# EAGLE library part DM3A (library Lysenko_Eagle_Lib)
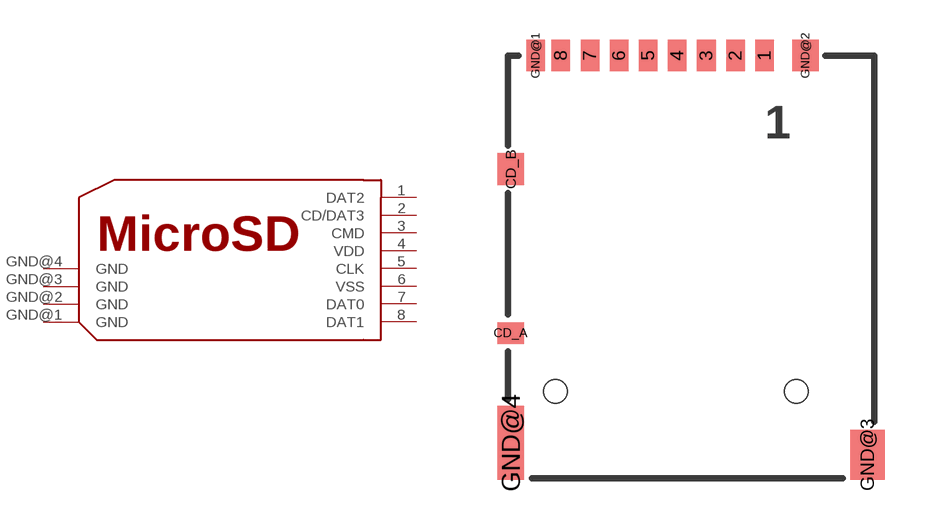
[diagram p5: symbol with the pads of DM3A; footprint DM3A]

Designator prefix -

## DM3A  [DM3A]
1  DAT2
2  CD/DAT3
3  CMD
4  VDD
5  CLK
6  VSS
7  DAT0
8  DAT1
GND@1  GND
GND@2  GND
GND@3  GND
GND@4  GND

## Footprint DM3A (pad centres in mm)
smd 0.7 x 1.2: 1 2.54,8.22; 2 1.44,8.22; 3 0.34,8.22; 4 -0.76,8.22; 5 -1.86,8.22; 6 -2.96,8.22; 7 -4.06,8.22; 8 -5.16,8.22; GND@1 -6.11,8.22
smd 1 x 0.8: CD_A -7.06,-2.28
smd 1 x 1.2: CD_B -7.06,3.92; GND@2 4.09,8.22
smd 1.3 x 1.9: GND@3 6.44,-6.88
smd 1 x 2.8: GND@4 -7.06,-6.43
hole 0.889 at 3.74,-4.48
hole 0.889 at -5.36,-4.48